# Altium schematic symbol library SDR0302-6R8ML.SchLib: 1 symbol
Pins are listed as number, name and electrical type; pins without a type are passive.

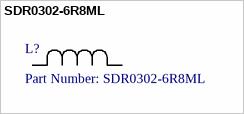
[diagram p0: symbol SDR0302-6R8ML]

## SDR0302-6R8ML
designator L?, comment Part Number: SDR0302-6R8ML
No Description Available; Vendor: Bourns Electronics; Built_By: EMA_UL_Team; Manufacturer_Part_Number: SDR0302-6R8ML; Copyright: Copyright (C) 2018 Accelerated Designs. All rights reserved; Value: Value
footprint IND_BOURNS_SDR03
pins: 1, 2